# Altium integrated library ON Semi IGBTs.IntLib: 53 symbols (part 1 of 2)
Pins are listed as number, name and electrical type; pins without a type are passive.

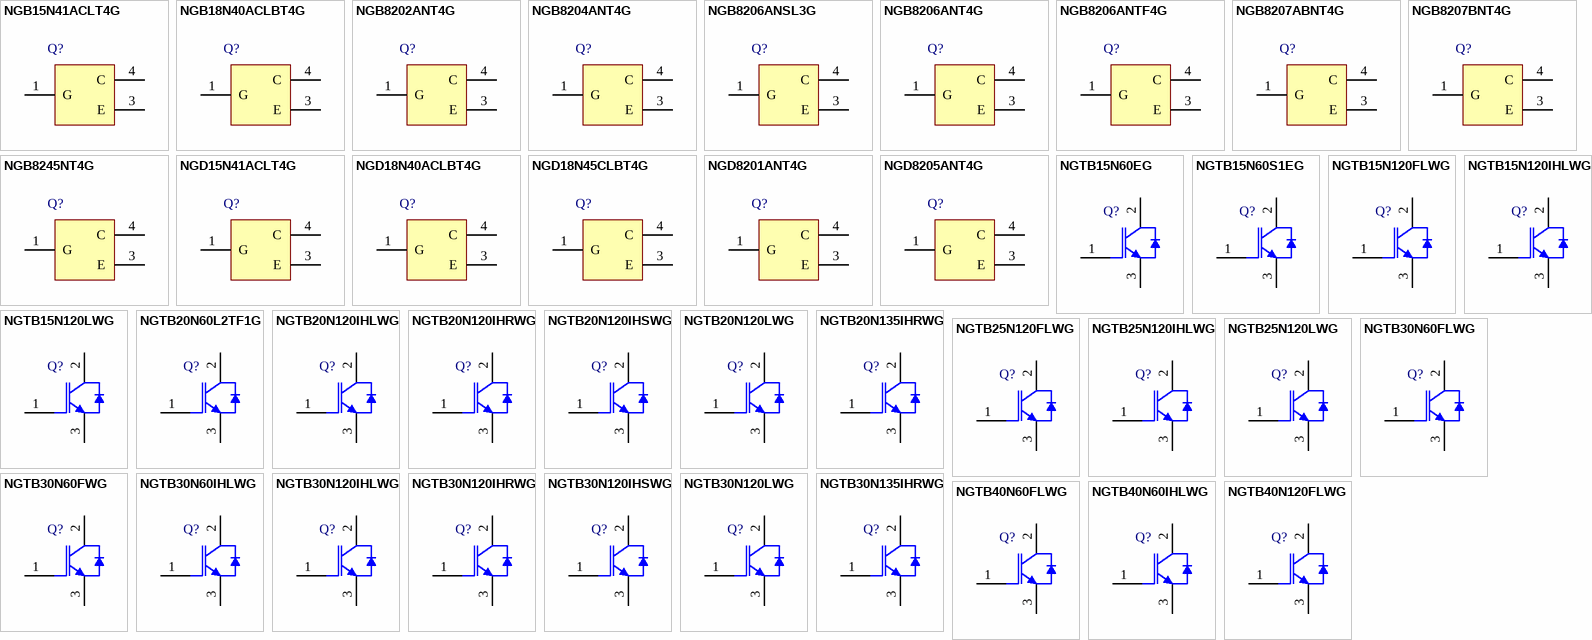
[diagram p0: symbols NGB15N41ACLT4G to NGTB40N120FLWG]

## NGB15N41ACLT4G
designator Q?
Ignition IGBT, 15 A, 410 V, N-Channel, 3-Pin D2PAK, Pb-Free, Tape and Reel; Manufacturer: On Semiconductor; PartNumber: NGB15N41ACLT4G; PD Max (W): 107; V(BR)CES Typ (V): 410; DatasheetVersion: Rev. 8; PackageVersion: Rev. K, 09/2008; PackageReference: D2PAK-3-418B-04; PackageDescription: 3-Pin Flange Mount, Body 9.145 x 9.97 mm, Pitch 2.54 mm; Supplier 1: Digi-Key; Supplier Part Number 1: NGB15N41ACLT4G-ND; Supplier 2: Newark; Supplier Part Number 2: 76T6446; Supplier 3: Mouser; Supplier Part Number 3: 863-NGB15N41ACLT4G; Packing: Tape and Reel; RoHS: Pb-Free; Mounting Technology: Surface Mount; ComponentLink1Description: Manufacturer URL; ComponentLink1URL: http://www.onsemi.com/; ComponentLink2Description: Datasheet; ComponentLink2URL: http://www.onsemi.com/pub_link/Collateral/NGD15N41CL-D.PDF; ComponentLink3Description: Package Specification; ComponentLink3URL: http://www.onsemi.com/pub_link/Collateral/418B-04.PDF
footprint ONSC-D2PAK-3-418B-04_V (DPAK, 3-Leads, Body 9.97x9.145mm, Pitch 2.54mm)
pins: 1 G, 3 E, 4 C

## NGB18N40ACLBT4G
designator Q?
Ignition IGBT, 18 A, 400 V, N-Channel, 3-Pin D2PAK, Pb-Free, Tape and Reel; Manufacturer: On Semiconductor; PartNumber: NGB18N40ACLBT4G; PD Max (W): 115; DatasheetVersion: Rev. 4; PackageVersion: Rev. K, 09/2008; PackageReference: D2PAK-3-418B-04; PackageDescription: 3-Pin Flange Mount, Body 9.145 x 9.97 mm, Pitch 2.54 mm; Supplier 1: Digi-Key; Supplier Part Number 1: NGB18N40ACLBT4G-ND; Supplier 2: Mouser; Supplier Part Number 2: 863-NGB18N40ACLBT4G; Packing: Tape and Reel; RoHS: Pb-Free; Mounting Technology: Surface Mount; ComponentLink1Description: Manufacturer URL; ComponentLink1URL: http://www.onsemi.com/; ComponentLink2Description: Datasheet; ComponentLink2URL: http://www.onsemi.com/pub_link/Collateral/NGB18N40CLBT4-D.PDF; ComponentLink3Description: Package Specification; ComponentLink3URL: http://www.onsemi.com/pub_link/Collateral/418B-04.PDF
footprint ONSC-D2PAK-3-418B-04_V (DPAK, 3-Leads, Body 9.97x9.145mm, Pitch 2.54mm)
pins: 1 G, 3 E, 4 C

## NGB8202ANT4G
designator Q?
Ignition IGBT, 20 A, 400 V, N-Channel, 3-Pin D2PAK, Pb-Free, Tape and Reel; Manufacturer: On Semiconductor; PartNumber: NGB8202ANT4G; PD Max (W): 150; DatasheetVersion: Rev. 7; PackageVersion: Rev. K, 09/2008; PackageReference: D2PAK-3-418B-04; PackageDescription: 3-Pin Flange Mount, Body 9.145 x 9.97 mm, Pitch 2.54 mm; Supplier 1: Digi-Key; Supplier Part Number 1: NGB8202ANT4G-ND; Supplier 2: Newark; Supplier Part Number 2: 07W7299; Supplier 3: Mouser; Supplier Part Number 3: 863-NGB8202ANT4G; Packing: Tape and Reel; RoHS: Pb-Free; Mounting Technology: Surface Mount; ComponentLink1Description: Manufacturer URL; ComponentLink1URL: http://www.onsemi.com/; ComponentLink2Description: Datasheet; ComponentLink2URL: http://www.onsemi.com/pub_link/Collateral/NGB8202N-D.PDF; ComponentLink3Description: Package Specification; ComponentLink3URL: http://www.onsemi.com/pub_link/Collateral/418B-04.PDF
footprint ONSC-D2PAK-3-418B-04_V (DPAK, 3-Leads, Body 9.97x9.145mm, Pitch 2.54mm)
pins: 1 G, 3 E, 4 C

## NGB8204ANT4G
designator Q?
Ignition IGBT, 18 A, 400 V, N-Channel, 3-Pin D2PAK, Pb-Free, Tape and Reel; Manufacturer: On Semiconductor; PartNumber: NGB8204ANT4G; PD Max (W): 115; DatasheetVersion: Rev. 4; PackageVersion: Rev. K, 09/2008; PackageReference: D2PAK-3-418B-04; PackageDescription: 3-Pin Flange Mount, Body 9.145 x 9.97 mm, Pitch 2.54 mm; Supplier 1: Digi-Key; Supplier Part Number 1: NGB8204ANT4GOSTR-ND; Supplier 2: Digi-Key; Supplier Part Number 2: NGB8204ANT4GOSCT-ND; Supplier 3: Digi-Key; Supplier Part Number 3: NGB8204ANT4GOSDKR-ND; Supplier 4: Mouser; Supplier Part Number 4: 863-NGB8204ANT4G; Packing: Tape and Reel; RoHS: Pb-Free; Mounting Technology: Surface Mount; ComponentLink1Description: Manufacturer URL; ComponentLink1URL: http://www.onsemi.com/; ComponentLink2Description: Datasheet; ComponentLink2URL: http://www.onsemi.com/pub_link/Collateral/NGB8204N-D.PDF; ComponentLink3Description: Package Specification; ComponentLink3URL: http://www.onsemi.com/pub_link/Collateral/418B-04.PDF
footprint ONSC-D2PAK-3-418B-04_V (DPAK, 3-Leads, Body 9.97x9.145mm, Pitch 2.54mm)
pins: 1 G, 3 E, 4 C

## NGB8206ANSL3G
designator Q?
Ignition IGBT, 20 A, 350 V, N-Channel, 3-Pin D2PAK, Pb-Free, Tube; Manufacturer: On Semiconductor; PartNumber: NGB8206ANSL3G; PD Max (W): 150; DatasheetVersion: Rev. 9; PackageVersion: Rev. K, 09/2008; PackageReference: D2PAK-3-418B-04; PackageDescription: 3-Pin Flange Mount, Body 9.145 x 9.97 mm, Pitch 2.54 mm; Supplier 1: Digi-Key; Supplier Part Number 1: NGB8206ANSL3G-ND; Supplier 2: Newark; Supplier Part Number 2: 07W7300; Supplier 3: Mouser; Supplier Part Number 3: 863-NGB8206ANSL3G; Packing: Tube; RoHS: Pb-Free; Mounting Technology: Surface Mount; ComponentLink1Description: Manufacturer URL; ComponentLink1URL: http://www.onsemi.com/; ComponentLink2Description: Datasheet; ComponentLink2URL: http://www.onsemi.com/pub_link/Collateral/NGB8206N-D.PDF; ComponentLink3Description: Package Specification; ComponentLink3URL: http://www.onsemi.com/pub_link/Collateral/418B-04.PDF
footprint ONSC-D2PAK-3-418B-04_V (DPAK, 3-Leads, Body 9.97x9.145mm, Pitch 2.54mm)
pins: 1 G, 3 E, 4 C

## NGB8206ANT4G
designator Q?
Ignition IGBT, 20 A, 350 V, N-Channel, 3-Pin D2PAK, Pb-Free, Tape and Reel; Manufacturer: On Semiconductor; PartNumber: NGB8206ANT4G; PD Max (W): 150; DatasheetVersion: Rev. 9; PackageVersion: Rev. K, 09/2008; PackageReference: D2PAK-3-418B-04; PackageDescription: 3-Pin Flange Mount, Body 9.145 x 9.97 mm, Pitch 2.54 mm; Supplier 1: Digi-Key; Supplier Part Number 1: NGB8206ANT4G-ND; Supplier 2: Mouser; Supplier Part Number 2: 863-NGB8206ANT4G; Packing: Tape and Reel; RoHS: Pb-Free; Mounting Technology: Surface Mount; ComponentLink1Description: Manufacturer URL; ComponentLink1URL: http://www.onsemi.com/; ComponentLink2Description: Datasheet; ComponentLink2URL: http://www.onsemi.com/pub_link/Collateral/NGB8206N-D.PDF; ComponentLink3Description: Package Specification; ComponentLink3URL: http://www.onsemi.com/pub_link/Collateral/418B-04.PDF
footprint ONSC-D2PAK-3-418B-04_V (DPAK, 3-Leads, Body 9.97x9.145mm, Pitch 2.54mm)
pins: 1 G, 3 E, 4 C

## NGB8206ANTF4G
designator Q?
Ignition IGBT, 20 A, 350 V, N-Channel, 3-Pin D2PAK, Pb-Free, Tape and Reel; Manufacturer: On Semiconductor; PartNumber: NGB8206ANTF4G; PD Max (W): 150; DatasheetVersion: Rev. 9; PackageVersion: Rev. K, 09/2008; PackageReference: D2PAK-3-418B-04; PackageDescription: 3-Pin Flange Mount, Body 9.145 x 9.97 mm, Pitch 2.54 mm; Supplier 1: Digi-Key; Supplier Part Number 1: NGB8206ANTF4G-ND; Supplier 2: Mouser; Supplier Part Number 2: 863-NGB8206ANTF4G; Packing: Tape and Reel; RoHS: Pb-Free; Mounting Technology: Surface Mount; ComponentLink1Description: Manufacturer URL; ComponentLink1URL: http://www.onsemi.com/; ComponentLink2Description: Datasheet; ComponentLink2URL: http://www.onsemi.com/pub_link/Collateral/NGB8206N-D.PDF; ComponentLink3Description: Package Specification; ComponentLink3URL: http://www.onsemi.com/pub_link/Collateral/418B-04.PDF
footprint ONSC-D2PAK-3-418B-04_V (DPAK, 3-Leads, Body 9.97x9.145mm, Pitch 2.54mm)
pins: 1 G, 3 E, 4 C

## NGB8207ABNT4G
designator Q?
Ignition IGBT, 20 A, 365 V, N-Channel, 3-Pin D2PAK, Pb-Free, Tape and Reel; Manufacturer: On Semiconductor; PartNumber: NGB8207ABNT4G; PD Max (W): 165; DatasheetVersion: Rev. 1; PackageVersion: Rev. K, 09/2008; PackageReference: D2PAK-3-418B-04; PackageDescription: 3-Pin Flange Mount, Body 9.145 x 9.97 mm, Pitch 2.54 mm; Supplier 1: Digi-Key; Supplier Part Number 1: NGB8207ABNT4GOSTR-ND; Supplier 2: Digi-Key; Supplier Part Number 2: NGB8207ABNT4GOSCT-ND; Supplier 3: Digi-Key; Supplier Part Number 3: NGB8207ABNT4GOSDKR-ND; Supplier 4: Mouser; Supplier Part Number 4: 863-NGB8207ABNT4G; Packing: Tape and Reel; RoHS: Pb-Free; Mounting Technology: Surface Mount; ComponentLink1Description: Manufacturer URL; ComponentLink1URL: http://www.onsemi.com/; ComponentLink2Description: Datasheet; ComponentLink2URL: http://www.onsemi.com/pub_link/Collateral/NGB8207AN-D.PDF; ComponentLink3Description: Package Specification; ComponentLink3URL: http://www.onsemi.com/pub_link/Collateral/418B-04.PDF
footprint ONSC-D2PAK-3-418B-04_V (DPAK, 3-Leads, Body 9.97x9.145mm, Pitch 2.54mm)
pins: 1 G, 3 E, 4 C

## NGB8207BNT4G
designator Q?
Ignition IGBT, 20 A, 365 V, N-Channel, 3-Pin D2PAK, Pb-Free, Tape and Reel; Manufacturer: On Semiconductor; PartNumber: NGB8207BNT4G; PD Max (W): 165; DatasheetVersion: Rev. 1; PackageVersion: Rev. K, 09/2008; PackageReference: D2PAK-3-418B-04; PackageDescription: 3-Pin Flange Mount, Body 9.145 x 9.97 mm, Pitch 2.54 mm; Supplier 1: Digi-Key; Supplier Part Number 1: NGB8207BNT4GOSTR-ND; Supplier 2: Digi-Key; Supplier Part Number 2: NGB8207BNT4GOSCT-ND; Supplier 3: Digi-Key; Supplier Part Number 3: NGB8207BNT4GOSDKR-ND; Supplier 4: Farnell; Supplier Part Number 4: 2114668; Supplier 5: Newark; Supplier Part Number 5: 05W5639; Supplier 6: Mouser; Supplier Part Number 6: 863-NGB8207BNT4G; Packing: Tape and Reel; RoHS: Pb-Free; Mounting Technology: Surface Mount; ComponentLink1Description: Manufacturer URL; ComponentLink1URL: http://www.onsemi.com/; ComponentLink2Description: Datasheet; ComponentLink2URL: http://www.onsemi.com/pub_link/Collateral/NGB8207N-D.PDF; ComponentLink3Description: Package Specification; ComponentLink3URL: http://www.onsemi.com/pub_link/Collateral/418B-04.PDF
footprint ONSC-D2PAK-3-418B-04_V (DPAK, 3-Leads, Body 9.97x9.145mm, Pitch 2.54mm)
pins: 1 G, 3 E, 4 C

## NGB8245NT4G
designator Q?
Ignition IGBT, 20 A, 450 V, N-Channel, 3-Pin D2PAK, Pb-Free, Tape and Reel; Manufacturer: On Semiconductor; PartNumber: NGB8245NT4G; EAS Typ (mJ): 158; PD Max (W): 150; DatasheetVersion: Rev. 2; PackageVersion: Rev. K, 09/2008; PackageReference: D2PAK-3-418B-04; PackageDescription: 3-Pin Flange Mount, Body 9.145 x 9.97 mm, Pitch 2.54 mm; Supplier 1: Digi-Key; Supplier Part Number 1: NGB8245NT4GOSTR-ND; Supplier 2: Digi-Key; Supplier Part Number 2: NGB8245NT4GOSCT-ND; Supplier 3: Digi-Key; Supplier Part Number 3: NGB8245NT4GOSDKR-ND; Supplier 4: Newark; Supplier Part Number 4: 76T6448; Supplier 5: Mouser; Supplier Part Number 5: 863-NGB8245NT4G; Packing: Tape and Reel; RoHS: Pb-Free; Mounting Technology: Surface Mount; ComponentLink1Description: Manufacturer URL; ComponentLink1URL: http://www.onsemi.com/; ComponentLink2Description: Datasheet; ComponentLink2URL: http://www.onsemi.com/pub_link/Collateral/NGB8245N-D.PDF; ComponentLink3Description: Package Specification; ComponentLink3URL: http://www.onsemi.com/pub_link/Collateral/418B-04.PDF
footprint ONSC-D2PAK-3-418B-04_V (DPAK, 3-Leads, Body 9.97x9.145mm, Pitch 2.54mm)
pins: 1 G, 3 E, 4 C

## NGD15N41ACLT4G
designator Q?
Ignition IGBT, 15 A, 410 V, N-Channel, 3-Pin DPAK, Pb-Free, Tape and Reel; Manufacturer: On Semiconductor; PartNumber: NGD15N41ACLT4G; PD Max (W): 107; V(BR)CES Typ (V): 410; DatasheetVersion: Rev. 8; PackageVersion: Rev. E, 02/2014; PackageReference: DPAK-3-369C-01; PackageDescription: 3-Pin Flange Mount, Body 6.54 x 6.095 mm, Pitch 2.29 mm; Supplier 1: Digi-Key; Supplier Part Number 1: NGD15N41ACLT4G-ND; Supplier 2: Newark; Supplier Part Number 2: 76T6449; Supplier 3: Mouser; Supplier Part Number 3: 863-NGD15N41ACLT4G; Packing: Tape and Reel; RoHS: Pb-Free; Mounting Technology: Surface Mount; ComponentLink1Description: Manufacturer URL; ComponentLink1URL: http://www.onsemi.com/; ComponentLink2Description: Datasheet; ComponentLink2URL: http://www.onsemi.com/pub_link/Collateral/NGD15N41CL-D.PDF; ComponentLink3Description: Package Specification; ComponentLink3URL: http://www.onsemi.cn/pub_link/Collateral/369C.PDF
footprint ONSC-DPAK-3-369C-01_V (DPAK, 3-Leads, Body 6.54x6.095mm, Pitch 2.29mm)
pins: 1 G, 3 E, 4 C

## NGD18N40ACLBT4G
designator Q?
Ignition IGBT, 18 A, 400 V, N-Channel, 3-Pin DPAK, Pb-Free, Tape and Reel; Manufacturer: On Semiconductor; PartNumber: NGD18N40ACLBT4G; PD Max (W): 115; DatasheetVersion: Rev. 8; PackageVersion: Rev. E, 02/2014; PackageReference: DPAK-3-369C-01; PackageDescription: 3-Pin Flange Mount, Body 6.54 x 6.095 mm, Pitch 2.29 mm; Supplier 1: Digi-Key; Supplier Part Number 1: NGD18N40ACLBT4GOSTR-ND; Supplier 2: Digi-Key; Supplier Part Number 2: NGD18N40ACLBT4GOSCT-ND; Supplier 3: Digi-Key; Supplier Part Number 3: NGD18N40ACLBT4GOSDKR-ND; Supplier 4: Farnell; Supplier Part Number 4: 2114669; Supplier 5: Newark; Supplier Part Number 5: 92T2160; Supplier 6: Mouser; Supplier Part Number 6: 863-NGD18N40ACLBT4G; Packing: Tape and Reel; RoHS: Pb-Free; Mounting Technology: Surface Mount; ComponentLink1Description: Manufacturer URL; ComponentLink1URL: http://www.onsemi.com/; ComponentLink2Description: Datasheet; ComponentLink2URL: http://www.onsemi.com/pub_link/Collateral/NGD18N40CLB-D.PDF; ComponentLink3Description: Package Specification; ComponentLink3URL: http://www.onsemi.cn/pub_link/Collateral/369C.PDF
footprint ONSC-DPAK-3-369C-01_V (DPAK, 3-Leads, Body 6.54x6.095mm, Pitch 2.29mm)
pins: 1 G, 3 E, 4 C

## NGD18N45CLBT4G
designator Q?
Ignition IGBT, 18 A, 450 V, N-Channel, 3-Pin DPAK, Pb-Free, Tape and Reel; Manufacturer: On Semiconductor; PartNumber: NGD18N45CLBT4G; PD Max (W): 115; DatasheetVersion: Rev. 0; PackageVersion: Rev. E, 02/2014; PackageReference: DPAK-3-369C-01; PackageDescription: 3-Pin Flange Mount, Body 6.54 x 6.095 mm, Pitch 2.29 mm; Supplier 1: Newark; Supplier Part Number 1: 60W1751; Supplier 2: Mouser; Supplier Part Number 2: 863-NGD18N45CLBT4G; Packing: Tape and Reel; RoHS: Pb-Free; Mounting Technology: Surface Mount; ComponentLink1Description: Manufacturer URL; ComponentLink1URL: http://www.onsemi.com/; ComponentLink2Description: Datasheet; ComponentLink2URL: http://www.onsemi.com/pub_link/Collateral/NGD18N45CLB-D.PDF; ComponentLink3Description: Package Specification; ComponentLink3URL: http://www.onsemi.cn/pub_link/Collateral/369C.PDF
footprint ONSC-DPAK-3-369C-01_V (DPAK, 3-Leads, Body 6.54x6.095mm, Pitch 2.29mm)
pins: 1 G, 3 E, 4 C

## NGD8201ANT4G
designator Q?
Ignition IGBT, 20 A, 400 V, N-Channel, 3-Pin DPAK, Pb-Free, Tape and Reel; Manufacturer: On Semiconductor; PartNumber: NGD8201ANT4G; PD Max (W): 125; DatasheetVersion: Rev. 11; PackageVersion: Rev. E, 02/2014; PackageReference: DPAK-3-369C-01; PackageDescription: 3-Pin Flange Mount, Body 6.54 x 6.095 mm, Pitch 2.29 mm; Supplier 1: Digi-Key; Supplier Part Number 1: NGD8201ANT4GOSTR-ND; Supplier 2: Digi-Key; Supplier Part Number 2: NGD8201ANT4GOSCT-ND; Supplier 3: Digi-Key; Supplier Part Number 3: NGD8201ANT4GOSDKR-ND; Supplier 4: Mouser; Supplier Part Number 4: 863-NGD8201ANT4G; Packing: Tape and Reel; RoHS: Pb-Free; Mounting Technology: Surface Mount; ComponentLink1Description: Manufacturer URL; ComponentLink1URL: http://www.onsemi.com/; ComponentLink2Description: Datasheet; ComponentLink2URL: http://www.onsemi.com/pub_link/Collateral/NGD8201N-D.PDF; ComponentLink3Description: Package Specification; ComponentLink3URL: http://www.onsemi.cn/pub_link/Collateral/369C.PDF
footprint ONSC-DPAK-3-369C-01_V (DPAK, 3-Leads, Body 6.54x6.095mm, Pitch 2.29mm)
pins: 1 G, 3 E, 4 C

## NGD8205ANT4G
designator Q?
Ignition IGBT, 20 A, 350 V, N-Channel, 3-Pin DPAK, Pb-Free, Tape and Reel; Manufacturer: On Semiconductor; PartNumber: NGD8205ANT4G; PD Max (W): 125; DatasheetVersion: Rev. 9; PackageVersion: Rev. E, 02/2014; PackageReference: DPAK-3-369C-01; PackageDescription: 3-Pin Flange Mount, Body 6.54 x 6.095 mm, Pitch 2.29 mm; Supplier 1: Digi-Key; Supplier Part Number 1: NGD8205ANT4GOSTR-ND; Supplier 2: Digi-Key; Supplier Part Number 2: NGD8205ANT4GOSCT-ND; Supplier 3: Digi-Key; Supplier Part Number 3: NGD8205ANT4GOSDKR-ND; Supplier 4: Farnell; Supplier Part Number 4: 2114670; Supplier 5: Mouser; Supplier Part Number 5: 863-NGD8205ANT4G; Packing: Tape and Reel; RoHS: Pb-Free; Mounting Technology: Surface Mount; ComponentLink1Description: Manufacturer URL; ComponentLink1URL: http://www.onsemi.com/; ComponentLink2Description: Datasheet; ComponentLink2URL: http://www.onsemi.com/pub_link/Collateral/NGD8205N-D.PDF; ComponentLink3Description: Package Specification; ComponentLink3URL: http://www.onsemi.cn/pub_link/Collateral/369C.PDF
footprint ONSC-DPAK-3-369C-01_V (DPAK, 3-Leads, Body 6.54x6.095mm, Pitch 2.29mm)
pins: 1 G, 3 E, 4 C

## NGTB15N60EG
designator Q?
IGBT - Short-Circuit Rated, 3-Pin TO-220, Pb-Free, Tube; Manufacturer: On Semiconductor; PartNumber: NGTB15N60EG; DatasheetVersion: Rev. 7; PackageVersion: Rev. AG, 09/2011; PackageReference: TO-220-3-221A-09; PackageDescription: 3-Pin Flange Mount, Vertical Straight Lead, Body 9.97 x 4.445 mm, Pitch 2.54 mm; Supplier 1: Digi-Key; Supplier Part Number 1: NGTB15N60EGOS-ND; Supplier 2: Farnell; Supplier Part Number 2: 2216666; Supplier 3: Newark; Supplier Part Number 3: 07W7304; Supplier 4: Newark; Supplier Part Number 4: 46W5231; Supplier 5: Mouser; Supplier Part Number 5: 863-NGTB15N60EG; Packing: Tube; RoHS: Pb-Free; Mounting Technology: Through Hole; ComponentLink1Description: Manufacturer URL; ComponentLink1URL: http://www.onsemi.com/; ComponentLink2Description: Datasheet; ComponentLink2URL: http://www.onsemi.com/pub_link/Collateral/NGTB15N60E-D.PDF; ComponentLink3Description: Package Specification; ComponentLink3URL: http://www.onsemi.com/pub_link/Collateral/221A-09.PDF
footprint ONSC-TO-220-3-221A-09 (FM, 3-Leads, Body 10.3x4.85mm, Pitch 2.54mm)
pins: 1 G, 2 C, 3 E

## NGTB15N60S1EG
designator Q?
IGBT - Short-Circuit Rated, 3-Pin TO-220, Pb-Free, Tube; Manufacturer: On Semiconductor; PartNumber: NGTB15N60S1EG; DatasheetVersion: Rev. 3; PackageVersion: Rev. AG, 09/2011; PackageReference: TO-220-3-221A-09; PackageDescription: 3-Pin Flange Mount, Vertical Straight Lead, Body 9.97 x 4.445 mm, Pitch 2.54 mm; Supplier 1: Digi-Key; Supplier Part Number 1: NGTB15N60S1EGOS-ND; Supplier 2: Farnell; Supplier Part Number 2: 2216667; Supplier 3: Newark; Supplier Part Number 3: 07W7305; Supplier 4: Newark; Supplier Part Number 4: 46W5232; Supplier 5: Mouser; Supplier Part Number 5: 863-NGTB15N60S1EG; Packing: Tube; RoHS: Pb-Free; Mounting Technology: Through Hole; ComponentLink1Description: Manufacturer URL; ComponentLink1URL: http://www.onsemi.com/; ComponentLink2Description: Datasheet; ComponentLink2URL: http://www.onsemi.com/pub_link/Collateral/NGTB15N60S1E-D.PDF; ComponentLink3Description: Package Specification; ComponentLink3URL: http://www.onsemi.com/pub_link/Collateral/221A-09.PDF
footprint ONSC-TO-220-3-221A-09 (FM, 3-Leads, Body 10.3x4.85mm, Pitch 2.54mm)
pins: 1 G, 2 C, 3 E

## NGTB15N120FLWG
designator Q?
IGBT, 15 A, 1200 V, 3-Pin TO-247, Pb-Free, Tube; Manufacturer: On Semiconductor; PartNumber: NGTB15N120FLWG; DatasheetVersion: Rev. 1; PackageVersion: Rev. F, 10/2011; PackageReference: TO-247-3-340L-02; PackageDescription: 3-Pin Flange Mount, Vertical Straight Lead, Body 16.005 x 5 mm, Pitch 5.45 mm; Supplier 1: Farnell; Supplier Part Number 1: 2321672; Supplier 2: Newark; Supplier Part Number 2: 90W9264; Supplier 3: Newark; Supplier Part Number 3: 60W1752; Supplier 4: Mouser; Supplier Part Number 4: 863-NGTB15N120FLWG; Packing: Tube; RoHS: Pb-Free; Mounting Technology: Through Hole; ComponentLink1Description: Manufacturer URL; ComponentLink1URL: http://www.onsemi.com/; ComponentLink2Description: Datasheet; ComponentLink2URL: http://www.onsemi.com/pub_link/Collateral/NGTB15N120FLW-D.PDF; ComponentLink3Description: Package Specification; ComponentLink3URL: http://www.onsemi.cn/pub_link/Collateral/340L-02.PDF
footprint ONSC-TO-247-3-340L-02 (FM, 3-Leads, Body 16.3x5.3mm, Pitch 5.45mm)
pins: 1 G, 2 C, 3 E

## NGTB15N120IHLWG
designator Q?
IGBT, 15 A, 1200 V, 3-Pin TO-247, Pb-Free, Tube; Manufacturer: On Semiconductor; PartNumber: NGTB15N120IHLWG; DatasheetVersion: Rev. 1; PackageVersion: Rev. F, 10/2011; PackageReference: TO-247-3-340L-02; PackageDescription: 3-Pin Flange Mount, Vertical Straight Lead, Body 16.005 x 5 mm, Pitch 5.45 mm; Supplier 1: Digi-Key; Supplier Part Number 1: NGTB15N120IHLWGOS-ND; Supplier 2: Farnell; Supplier Part Number 2: 2114671; Supplier 3: Newark; Supplier Part Number 3: 05W5642; Supplier 4: Newark; Supplier Part Number 4: 92T2162; Supplier 5: Mouser; Supplier Part Number 5: 863-NGTB15N120IHLWG; Packing: Tube; RoHS: Pb-Free; Mounting Technology: Through Hole; ComponentLink1Description: Manufacturer URL; ComponentLink1URL: http://www.onsemi.com/; ComponentLink2Description: Datasheet; ComponentLink2URL: http://www.onsemi.com/pub_link/Collateral/NGTB15N120IHL-D.PDF; ComponentLink3Description: Package Specification; ComponentLink3URL: http://www.onsemi.cn/pub_link/Collateral/340L-02.PDF
footprint ONSC-TO-247-3-340L-02 (FM, 3-Leads, Body 16.3x5.3mm, Pitch 5.45mm)
pins: 1 G, 2 C, 3 E

## NGTB15N120LWG
designator Q?
IGBT, 15 A, 1200 V, 3-Pin TO-247, Pb-Free, Tube; Manufacturer: On Semiconductor; PartNumber: NGTB15N120LWG; DatasheetVersion: Rev. 3; PackageVersion: Rev. F, 10/2011; PackageReference: TO-247-3-340L-02; PackageDescription: 3-Pin Flange Mount, Vertical Straight Lead, Body 16.005 x 5 mm, Pitch 5.45 mm; Supplier 1: Digi-Key; Supplier Part Number 1: NGTB15N120LWGOS-ND; Supplier 2: Farnell; Supplier Part Number 2: 2216665; Supplier 3: Newark; Supplier Part Number 3: 07W7303; Supplier 4: Mouser; Supplier Part Number 4: 863-NGTB15N120LWG; Packing: Tube; RoHS: Pb-Free; Mounting Technology: Through Hole; ComponentLink1Description: Manufacturer URL; ComponentLink1URL: http://www.onsemi.com/; ComponentLink2Description: Datasheet; ComponentLink2URL: http://www.onsemi.com/pub_link/Collateral/NGTB15N120L-D.PDF; ComponentLink3Description: Package Specification; ComponentLink3URL: http://www.onsemi.cn/pub_link/Collateral/340L-02.PDF
footprint ONSC-TO-247-3-340L-02 (FM, 3-Leads, Body 16.3x5.3mm, Pitch 5.45mm)
pins: 1 G, 2 C, 3 E

## NGTB20N60L2TF1G
designator Q?
N-Channel IGBT, 600 V, 20 A, VCE(sat), 1.45 V with Low VF Switching Diode, 3-Pin TO-3PF, Pb-Free, Tube; Manufacturer: On Semiconductor; PartNumber: NGTB20N60L2TF1G; PD Max (W): 64; PackageVersion: Rev. O, 04/2012; PackageReference: TO-3PF-3L-3-340AH; PackageDescription: 3-Pin Flange Mount, Body 15.5 x 5.5 mm, Pitch 5.45 mm; Supplier 1: Newark; Supplier Part Number 1: 97W6295; Supplier 2: Mouser; Supplier Part Number 2: 863-NGTB20N60L2TF1G; Packing: Tube; RoHS: Pb-Free; Mounting Technology: Through Hole; ComponentLink1Description: Manufacturer URL; ComponentLink1URL: http://www.onsemi.com/; ComponentLink2Description: Datasheet; ComponentLink2URL: http://www.onsemi.com/pub_link/Collateral/ENA2196-D.PDF; ComponentLink3Description: Package Specification; ComponentLink3URL: http://www.onsemi.com/pub_link/Collateral/340AH.PDF
footprint ONSC-TO-3PF-3L-3-340AH (FM, 3-Leads, Body 15.7x5.7mm, Pitch 5.45mm)
pins: 1 G, 2 C, 3 E

## NGTB20N120IHLWG
designator Q?
IGBT, 20 A, 1200 V, 3-Pin TO-247, Pb-Free, Tube; Manufacturer: On Semiconductor; PartNumber: NGTB20N120IHLWG; DatasheetVersion: Rev. 1; PackageVersion: Rev. F, 10/2011; PackageReference: TO-247-3-340L-02; PackageDescription: 3-Pin Flange Mount, Vertical Straight Lead, Body 16.005 x 5 mm, Pitch 5.45 mm; Supplier 1: Digi-Key; Supplier Part Number 1: NGTB20N120IHLWGOS-ND; Supplier 2: Farnell; Supplier Part Number 2: 2114672; Supplier 3: Newark; Supplier Part Number 3: 92T2163; Supplier 4: Mouser; Supplier Part Number 4: 863-NGTB20N120IHLWG; Packing: Tube; RoHS: Pb-Free; Mounting Technology: Through Hole; ComponentLink1Description: Manufacturer URL; ComponentLink1URL: http://www.onsemi.com/; ComponentLink2Description: Datasheet; ComponentLink2URL: http://www.onsemi.com/pub_link/Collateral/NGTB20N120IHL-D.PDF; ComponentLink3Description: Package Specification; ComponentLink3URL: http://www.onsemi.cn/pub_link/Collateral/340L-02.PDF
footprint ONSC-TO-247-3-340L-02 (FM, 3-Leads, Body 16.3x5.3mm, Pitch 5.45mm)
pins: 1 G, 2 C, 3 E

## NGTB20N120IHRWG
designator Q?
IGBT with Monolithic Free Wheeling Diode, 3-Pin TO-247, Pb-Free, Tube; Manufacturer: On Semiconductor; PartNumber: NGTB20N120IHRWG; DatasheetVersion: Rev. 1; PackageVersion: Rev. A, 08/2013; PackageReference: TO-247-3-340AL; PackageDescription: 3-Pin Flange Mount, Vertical Straight Lead, Body 15.875 x 5 mm, Pitch 5.45 mm; Supplier 1: Digi-Key; Supplier Part Number 1: NGTB20N120IHRWGOS-ND; Supplier 2: Newark; Supplier Part Number 2: 97W6293; Supplier 3: Mouser; Supplier Part Number 3: 863-NGTB20N120IHRWG; Packing: Tube; RoHS: Pb-Free; Mounting Technology: Through Hole; ComponentLink1Description: Manufacturer URL; ComponentLink1URL: http://www.onsemi.com/; ComponentLink2Description: Datasheet; ComponentLink2URL: http://www.onsemi.com/pub_link/Collateral/NGTB20N120IHR-D.PDF; ComponentLink3Description: Package Specification; ComponentLink3URL: http://www.onsemi.com/pub_link/Collateral/340AL.PDF
footprint ONSC-TO-247-3-340AL (FM, 3-Leads, Body 16.25x5.3mm, Pitch 5.45mm)
pins: 1 G, 2 C, 3 E

## NGTB20N120IHSWG
designator Q?
IGBT, 20 A, 1200 V, 3-Pin TO-247, Pb-Free, Tube; Manufacturer: On Semiconductor; PartNumber: NGTB20N120IHSWG; DatasheetVersion: Rev. 0; PackageVersion: Rev. F, 10/2011; PackageReference: TO-247-3-340L-02; PackageDescription: 3-Pin Flange Mount, Vertical Straight Lead, Body 16.005 x 5 mm, Pitch 5.45 mm; Supplier 1: Farnell; Supplier Part Number 1: 2321670; Supplier 2: Newark; Supplier Part Number 2: 60W1753; Supplier 3: Mouser; Supplier Part Number 3: 863-NGTB20N120IHSWG; Packing: Tube; RoHS: Pb-Free; Mounting Technology: Through Hole; ComponentLink1Description: Manufacturer URL; ComponentLink1URL: http://www.onsemi.com/; ComponentLink2Description: Datasheet; ComponentLink2URL: http://www.onsemi.com/pub_link/Collateral/NGTB20N120IHS-D.PDF; ComponentLink3Description: Package Specification; ComponentLink3URL: http://www.onsemi.cn/pub_link/Collateral/340L-02.PDF
footprint ONSC-TO-247-3-340L-02 (FM, 3-Leads, Body 16.3x5.3mm, Pitch 5.45mm)
pins: 1 G, 2 C, 3 E

## NGTB20N120LWG
designator Q?
IGBT, 20 A, 1200 V, 3-Pin TO-247, Pb-Free, Tube; Manufacturer: On Semiconductor; PartNumber: NGTB20N120LWG; DatasheetVersion: Rev. 2; PackageVersion: Rev. F, 10/2011; PackageReference: TO-247-3-340L-02; PackageDescription: 3-Pin Flange Mount, Vertical Straight Lead, Body 16.005 x 5 mm, Pitch 5.45 mm; Supplier 1: Digi-Key; Supplier Part Number 1: NGTB20N120LWGOS-ND; Supplier 2: Farnell; Supplier Part Number 2: 2216669; Supplier 3: Newark; Supplier Part Number 3: 07W7306; Supplier 4: Mouser; Supplier Part Number 4: 863-NGTB20N120LWG; Packing: Tube; RoHS: Pb-Free; Mounting Technology: Through Hole; ComponentLink1Description: Manufacturer URL; ComponentLink1URL: http://www.onsemi.com/; ComponentLink2Description: Datasheet; ComponentLink2URL: http://www.onsemi.com/pub_link/Collateral/NGTB20N120L-D.PDF; ComponentLink3Description: Package Specification; ComponentLink3URL: http://www.onsemi.cn/pub_link/Collateral/340L-02.PDF
footprint ONSC-TO-247-3-340L-02 (FM, 3-Leads, Body 16.3x5.3mm, Pitch 5.45mm)
pins: 1 G, 2 C, 3 E

## NGTB20N135IHRWG
designator Q?
IGBT with Monolithic Free Wheeling Diode, 3-Pin TO-247, Pb-Free, Tube; Manufacturer: On Semiconductor; PartNumber: NGTB20N135IHRWG; DatasheetVersion: Rev. 0; PackageVersion: Rev. A, 08/2013; PackageReference: TO-247-3-340AL; PackageDescription: 3-Pin Flange Mount, Vertical Straight Lead, Body 15.875 x 5 mm, Pitch 5.45 mm; Supplier 1: Digi-Key; Supplier Part Number 1: NGTB20N135IHRWGOS-ND; Supplier 2: Newark; Supplier Part Number 2: 97W6294; Supplier 3: Mouser; Supplier Part Number 3: 863-NGTB20N135IHRWG; Packing: Tube; RoHS: Pb-Free; Mounting Technology: Through Hole; ComponentLink1Description: Manufacturer URL; ComponentLink1URL: http://www.onsemi.com/; ComponentLink2Description: Datasheet; ComponentLink2URL: http://www.onsemi.com/pub_link/Collateral/NGTB20N135IHR-D.PDF; ComponentLink3Description: Package Specification; ComponentLink3URL: http://www.onsemi.com/pub_link/Collateral/340AL.PDF
footprint ONSC-TO-247-3-340AL (FM, 3-Leads, Body 16.25x5.3mm, Pitch 5.45mm)
pins: 1 G, 2 C, 3 E

## NGTB25N120FLWG
designator Q?
IGBT, 25 A, 1200 V, 3-Pin TO-247, Pb-Free, Tube; Manufacturer: On Semiconductor; PartNumber: NGTB25N120FLWG; DatasheetVersion: Rev. 0; PackageVersion: Rev. F, 10/2011; PackageReference: TO-247-3-340L-02; PackageDescription: 3-Pin Flange Mount, Vertical Straight Lead, Body 16.005 x 5 mm, Pitch 5.45 mm; Supplier 1: Farnell; Supplier Part Number 1: 2321669; Supplier 2: Newark; Supplier Part Number 2: 90W9266; Supplier 3: Newark; Supplier Part Number 3: 60W1754; Supplier 4: Mouser; Supplier Part Number 4: 863-NGTB25N120FLWG; Packing: Tube; RoHS: Pb-Free; Mounting Technology: Through Hole; ComponentLink1Description: Manufacturer URL; ComponentLink1URL: http://www.onsemi.com/; ComponentLink2Description: Datasheet; ComponentLink2URL: http://www.onsemi.com/pub_link/Collateral/NGTB25N120FLW-D.PDF; ComponentLink3Description: Package Specification; ComponentLink3URL: http://www.onsemi.cn/pub_link/Collateral/340L-02.PDF
footprint ONSC-TO-247-3-340L-02 (FM, 3-Leads, Body 16.3x5.3mm, Pitch 5.45mm)
pins: 1 G, 2 C, 3 E

## NGTB25N120IHLWG
designator Q?
IGBT, 25 A, 1200 V, 3-Pin TO-247, Pb-Free, Tube; Manufacturer: On Semiconductor; PartNumber: NGTB25N120IHLWG; DatasheetVersion: Rev. 2; PackageVersion: Rev. F, 10/2011; PackageReference: TO-247-3-340L-02; PackageDescription: 3-Pin Flange Mount, Vertical Straight Lead, Body 16.005 x 5 mm, Pitch 5.45 mm; Supplier 1: Digi-Key; Supplier Part Number 1: NGTB25N120IHLWGOS-ND; Supplier 2: Farnell; Supplier Part Number 2: 2114673; Supplier 3: Newark; Supplier Part Number 3: 92T2164; Supplier 4: Mouser; Supplier Part Number 4: 863-NGTB25N120IHLWG; Packing: Tube; RoHS: Pb-Free; Mounting Technology: Through Hole; ComponentLink1Description: Manufacturer URL; ComponentLink1URL: http://www.onsemi.com/; ComponentLink2Description: Datasheet; ComponentLink2URL: http://www.onsemi.com/pub_link/Collateral/NGTB25N120IHLW-D.PDF; ComponentLink3Description: Package Specification; ComponentLink3URL: http://www.onsemi.cn/pub_link/Collateral/340L-02.PDF
footprint ONSC-TO-247-3-340L-02 (FM, 3-Leads, Body 16.3x5.3mm, Pitch 5.45mm)
pins: 1 G, 2 C, 3 E

## NGTB25N120LWG
designator Q?
IGBT, 25 A, 1200 V, 3-Pin TO-247, Pb-Free, Tube; Manufacturer: On Semiconductor; PartNumber: NGTB25N120LWG; DatasheetVersion: Rev. 4; PackageVersion: Rev. F, 10/2011; PackageReference: TO-247-3-340L-02; PackageDescription: 3-Pin Flange Mount, Vertical Straight Lead, Body 16.005 x 5 mm, Pitch 5.45 mm; Supplier 1: Digi-Key; Supplier Part Number 1: NGTB25N120LWGOS-ND; Supplier 2: Farnell; Supplier Part Number 2: 2216671; Supplier 3: Newark; Supplier Part Number 3: 07W7307; Supplier 4: Mouser; Supplier Part Number 4: 863-NGTB25N120LWG; Packing: Tube; RoHS: Pb-Free; Mounting Technology: Through Hole; ComponentLink1Description: Manufacturer URL; ComponentLink1URL: http://www.onsemi.com/; ComponentLink2Description: Datasheet; ComponentLink2URL: http://www.onsemi.com/pub_link/Collateral/NGTB25N120L-D.PDF; ComponentLink3Description: Package Specification; ComponentLink3URL: http://www.onsemi.cn/pub_link/Collateral/340L-02.PDF
footprint ONSC-TO-247-3-340L-02 (FM, 3-Leads, Body 16.3x5.3mm, Pitch 5.45mm)
pins: 1 G, 2 C, 3 E

## NGTB30N60FLWG
designator Q?
IGBT, 30 A, 600 V, 3-Pin TO-247, Pb-Free, Tube; Manufacturer: On Semiconductor; PartNumber: NGTB30N60FLWG; DatasheetVersion: Rev. 1; PackageVersion: Rev. F, 10/2011; PackageReference: TO-247-3-340L-02; PackageDescription: 3-Pin Flange Mount, Vertical Straight Lead, Body 16.005 x 5 mm, Pitch 5.45 mm; Supplier 1: Digi-Key; Supplier Part Number 1: NGTB30N60FLWGOS-ND; Supplier 2: Farnell; Supplier Part Number 2: 2321656; Supplier 3: Newark; Supplier Part Number 3: 90W9270; Supplier 4: Newark; Supplier Part Number 4: 72W2258; Supplier 5: Mouser; Supplier Part Number 5: 863-NGTB30N60FLWG; Packing: Tube; RoHS: Pb-Free; Mounting Technology: Through Hole; ComponentLink1Description: Manufacturer URL; ComponentLink1URL: http://www.onsemi.com/; ComponentLink2Description: Datasheet; ComponentLink2URL: http://www.onsemi.com/pub_link/Collateral/NGTB30N60FLW-D.PDF; ComponentLink3Description: Package Specification; ComponentLink3URL: http://www.onsemi.cn/pub_link/Collateral/340L-02.PDF
footprint ONSC-TO-247-3-340L-02 (FM, 3-Leads, Body 16.3x5.3mm, Pitch 5.45mm)
pins: 1 G, 2 C, 3 E

## NGTB30N60FWG
designator Q?
IGBT, 30 A, 600 V, 3-Pin TO-247, Pb-Free, Tube; Manufacturer: On Semiconductor; PartNumber: NGTB30N60FWG; DatasheetVersion: Rev. 1; PackageVersion: Rev. F, 10/2011; PackageReference: TO-247-3-340L-02; PackageDescription: 3-Pin Flange Mount, Vertical Straight Lead, Body 16.005 x 5 mm, Pitch 5.45 mm; Supplier 1: Digi-Key; Supplier Part Number 1: NGTB30N60FWGOS-ND; Supplier 2: Farnell; Supplier Part Number 2: 2321657; Supplier 3: Newark; Supplier Part Number 3: 90W9271; Supplier 4: Newark; Supplier Part Number 4: 72W2259; Supplier 5: Mouser; Supplier Part Number 5: 863-NGTB30N60FWG; Packing: Tube; RoHS: Pb-Free; Mounting Technology: Through Hole; ComponentLink1Description: Manufacturer URL; ComponentLink1URL: http://www.onsemi.com/; ComponentLink2Description: Datasheet; ComponentLink2URL: http://www.onsemi.com/pub_link/Collateral/NGTB30N60FW-D.PDF; ComponentLink3Description: Package Specification; ComponentLink3URL: http://www.onsemi.cn/pub_link/Collateral/340L-02.PDF
footprint ONSC-TO-247-3-340L-02 (FM, 3-Leads, Body 16.3x5.3mm, Pitch 5.45mm)
pins: 1 G, 2 C, 3 E

## NGTB30N60IHLWG
designator Q?
IGBT, 30 A, 600 V, 3-Pin TO-247, Pb-Free, Tube; Manufacturer: On Semiconductor; PartNumber: NGTB30N60IHLWG; DatasheetVersion: Rev. 0; PackageVersion: Rev. F, 10/2011; PackageReference: TO-247-3-340L-02; PackageDescription: 3-Pin Flange Mount, Vertical Straight Lead, Body 16.005 x 5 mm, Pitch 5.45 mm; Supplier 1: Farnell; Supplier Part Number 1: 2321659; Supplier 2: Newark; Supplier Part Number 2: 90W9272; Supplier 3: Newark; Supplier Part Number 3: 60W1758; Supplier 4: Mouser; Supplier Part Number 4: 863-NGTB30N60IHLWG; Packing: Tube; RoHS: Pb-Free; Mounting Technology: Through Hole; ComponentLink1Description: Manufacturer URL; ComponentLink1URL: http://www.onsemi.com/; ComponentLink2Description: Datasheet; ComponentLink2URL: http://www.onsemi.com/pub_link/Collateral/NGTB30N60IHLW-D.PDF; ComponentLink3Description: Package Specification; ComponentLink3URL: http://www.onsemi.cn/pub_link/Collateral/340L-02.PDF
footprint ONSC-TO-247-3-340L-02 (FM, 3-Leads, Body 16.3x5.3mm, Pitch 5.45mm)
pins: 1 G, 2 C, 3 E

## NGTB30N120IHLWG
designator Q?
IGBT, 30 A, 1200 V, 3-Pin TO-247, Pb-Free, Tube; Manufacturer: On Semiconductor; PartNumber: NGTB30N120IHLWG; DatasheetVersion: Rev. 0; PackageVersion: Rev. F, 10/2011; PackageReference: TO-247-3-340L-02; PackageDescription: 3-Pin Flange Mount, Vertical Straight Lead, Body 16.005 x 5 mm, Pitch 5.45 mm; Supplier 1: Farnell; Supplier Part Number 1: 2321666; Supplier 2: Newark; Supplier Part Number 2: 90W9267; Supplier 3: Newark; Supplier Part Number 3: 60W1755; Supplier 4: Mouser; Supplier Part Number 4: 863-NGTB30N120IHLWG; Packing: Tube; RoHS: Pb-Free; Mounting Technology: Through Hole; ComponentLink1Description: Manufacturer URL; ComponentLink1URL: http://www.onsemi.com/; ComponentLink2Description: Datasheet; ComponentLink2URL: http://www.onsemi.com/pub_link/Collateral/NGTB30N120IHL-D.PDF; ComponentLink3Description: Package Specification; ComponentLink3URL: http://www.onsemi.cn/pub_link/Collateral/340L-02.PDF
footprint ONSC-TO-247-3-340L-02 (FM, 3-Leads, Body 16.3x5.3mm, Pitch 5.45mm)
pins: 1 G, 2 C, 3 E

## NGTB30N120IHRWG
designator Q?
IGBT with Monolithic Free Wheeling Diode, 3-Pin TO-247, Pb-Free, Tube; Manufacturer: On Semiconductor; PartNumber: NGTB30N120IHRWG; DatasheetVersion: Rev. 1; PackageVersion: Rev. A, 08/2013; PackageReference: TO-247-3-340AL; PackageDescription: 3-Pin Flange Mount, Vertical Straight Lead, Body 15.875 x 5 mm, Pitch 5.45 mm; Supplier 1: Digi-Key; Supplier Part Number 1: NGTB30N120IHRWGOS-ND; Supplier 2: Newark; Supplier Part Number 2: 97W6296; Supplier 3: Mouser; Supplier Part Number 3: 863-NGTB30N120IHRWG; Packing: Tube; RoHS: Pb-Free; Mounting Technology: Through Hole; ComponentLink1Description: Manufacturer URL; ComponentLink1URL: http://www.onsemi.com/; ComponentLink2Description: Datasheet; ComponentLink2URL: http://www.onsemi.com/pub_link/Collateral/NGTB30N120IHR-D.PDF; ComponentLink3Description: Package Specification; ComponentLink3URL: http://www.onsemi.com/pub_link/Collateral/340AL.PDF
footprint ONSC-TO-247-3-340AL (FM, 3-Leads, Body 16.25x5.3mm, Pitch 5.45mm)
pins: 1 G, 2 C, 3 E

## NGTB30N120IHSWG
designator Q?
IGBT, 30 A, 1200 V, 3-Pin TO-247, Pb-Free, Tube; Manufacturer: On Semiconductor; PartNumber: NGTB30N120IHSWG; DatasheetVersion: Rev. 0; PackageVersion: Rev. F, 10/2011; PackageReference: TO-247-3-340L-02; PackageDescription: 3-Pin Flange Mount, Vertical Straight Lead, Body 16.005 x 5 mm, Pitch 5.45 mm; Supplier 1: Farnell; Supplier Part Number 1: 2321667; Supplier 2: Newark; Supplier Part Number 2: 90W9268; Supplier 3: Newark; Supplier Part Number 3: 60W1756; Supplier 4: Mouser; Supplier Part Number 4: 863-NGTB30N120IHSWG; Packing: Tube; RoHS: Pb-Free; Mounting Technology: Through Hole; ComponentLink1Description: Manufacturer URL; ComponentLink1URL: http://www.onsemi.com/; ComponentLink2Description: Datasheet; ComponentLink2URL: http://www.onsemi.com/pub_link/Collateral/NGTB30N120IHSW-D.PDF; ComponentLink3Description: Package Specification; ComponentLink3URL: http://www.onsemi.cn/pub_link/Collateral/340L-02.PDF
footprint ONSC-TO-247-3-340L-02 (FM, 3-Leads, Body 16.3x5.3mm, Pitch 5.45mm)
pins: 1 G, 2 C, 3 E

## NGTB30N120LWG
designator Q?
IGBT, 30 A, 1200 V, 3-Pin TO-247, Pb-Free, Tube; Manufacturer: On Semiconductor; PartNumber: NGTB30N120LWG; DatasheetVersion: Rev. 1; PackageVersion: Rev. F, 10/2011; PackageReference: TO-247-3-340L-02; PackageDescription: 3-Pin Flange Mount, Vertical Straight Lead, Body 16.005 x 5 mm, Pitch 5.45 mm; Supplier 1: Farnell; Supplier Part Number 1: 2321668; Supplier 2: Mouser; Supplier Part Number 2: 863-NGTB30N120LWG; Packing: Tube; RoHS: Pb-Free; Mounting Technology: Through Hole; ComponentLink1Description: Manufacturer URL; ComponentLink1URL: http://www.onsemi.com/; ComponentLink2Description: Datasheet; ComponentLink2URL: http://www.onsemi.com/pub_link/Collateral/NGTB30N120L-D.PDF; ComponentLink3Description: Package Specification; ComponentLink3URL: http://www.onsemi.cn/pub_link/Collateral/340L-02.PDF
footprint ONSC-TO-247-3-340L-02 (FM, 3-Leads, Body 16.3x5.3mm, Pitch 5.45mm)
pins: 1 G, 2 C, 3 E

## NGTB30N135IHRWG
designator Q?
IGBT with Monolithic Free Wheeling Diode, 3-Pin TO-247, Pb-Free, Tube; Manufacturer: On Semiconductor; PartNumber: NGTB30N135IHRWG; DatasheetVersion: Rev. 0; PackageVersion: Rev. A, 08/2013; PackageReference: TO-247-3-340AL; PackageDescription: 3-Pin Flange Mount, Vertical Straight Lead, Body 15.875 x 5 mm, Pitch 5.45 mm; Supplier 1: Digi-Key; Supplier Part Number 1: NGTB30N135IHRWGOS-ND; Supplier 2: Newark; Supplier Part Number 2: 97W6297; Supplier 3: Mouser; Supplier Part Number 3: 863-NGTB30N135IHRWG; Packing: Tube; RoHS: Pb-Free; Mounting Technology: Through Hole; ComponentLink1Description: Manufacturer URL; ComponentLink1URL: http://www.onsemi.com/; ComponentLink2Description: Datasheet; ComponentLink2URL: http://www.onsemi.com/pub_link/Collateral/NGTB30N135IHR-D.PDF; ComponentLink3Description: Package Specification; ComponentLink3URL: http://www.onsemi.com/pub_link/Collateral/340AL.PDF
footprint ONSC-TO-247-3-340AL (FM, 3-Leads, Body 16.25x5.3mm, Pitch 5.45mm)
pins: 1 G, 2 C, 3 E

## NGTB40N60FLWG
designator Q?
IGBT, 40 A, 600 V, 3-Pin TO-247, Pb-Free, Tube; Manufacturer: On Semiconductor; PartNumber: NGTB40N60FLWG; DatasheetVersion: Rev. 0; PackageVersion: Rev. F, 10/2011; PackageReference: TO-247-3-340L-02; PackageDescription: 3-Pin Flange Mount, Vertical Straight Lead, Body 16.005 x 5 mm, Pitch 5.45 mm; Supplier 1: Digi-Key; Supplier Part Number 1: NGTB40N60FLWGOS-ND; Supplier 2: Newark; Supplier Part Number 2: 11X3632; Supplier 3: Mouser; Supplier Part Number 3: 863-NGTB40N60FLWG; Packing: Tube; RoHS: Pb-Free; Mounting Technology: Through Hole; ComponentLink1Description: Manufacturer URL; ComponentLink1URL: http://www.onsemi.com/; ComponentLink2Description: Datasheet; ComponentLink2URL: http://www.onsemi.com/pub_link/Collateral/NGTB40N60FLW-D.PDF; ComponentLink3Description: Package Specification; ComponentLink3URL: http://www.onsemi.cn/pub_link/Collateral/340L-02.PDF
footprint ONSC-TO-247-3-340L-02 (FM, 3-Leads, Body 16.3x5.3mm, Pitch 5.45mm)
pins: 1 G, 2 C, 3 E

## NGTB40N60IHLWG
designator Q?
IGBT, 40 A, 600 V, 3-Pin TO-247, Pb-Free, Tube; Manufacturer: On Semiconductor; PartNumber: NGTB40N60IHLWG; DatasheetVersion: Rev. 0; PackageVersion: Rev. F, 10/2011; PackageReference: TO-247-3-340L-02; PackageDescription: 3-Pin Flange Mount, Vertical Straight Lead, Body 16.005 x 5 mm, Pitch 5.45 mm; Supplier 1: Farnell; Supplier Part Number 1: 2321655; Supplier 2: Newark; Supplier Part Number 2: 90W9276; Supplier 3: Newark; Supplier Part Number 3: 60W1762; Supplier 4: Mouser; Supplier Part Number 4: 863-NGTB40N60IHLWG; Packing: Tube; RoHS: Pb-Free; Mounting Technology: Through Hole; ComponentLink1Description: Manufacturer URL; ComponentLink1URL: http://www.onsemi.com/; ComponentLink2Description: Datasheet; ComponentLink2URL: http://www.onsemi.com/pub_link/Collateral/NGTB40N60IHLW-D.PDF; ComponentLink3Description: Package Specification; ComponentLink3URL: http://www.onsemi.cn/pub_link/Collateral/340L-02.PDF
footprint ONSC-TO-247-3-340L-02 (FM, 3-Leads, Body 16.3x5.3mm, Pitch 5.45mm)
pins: 1 G, 2 C, 3 E

## NGTB40N120FLWG
designator Q?
IGBT, 40 A, 1200 V, 3-Pin TO-247, Pb-Free, Tube; Manufacturer: On Semiconductor; PartNumber: NGTB40N120FLWG; DatasheetVersion: Rev. 2; PackageVersion: Rev. F, 10/2011; PackageReference: TO-247-3-340L-02; PackageDescription: 3-Pin Flange Mount, Vertical Straight Lead, Body 16.005 x 5 mm, Pitch 5.45 mm; Supplier 1: Farnell; Supplier Part Number 1: 2321663; Supplier 2: Newark; Supplier Part Number 2: 90W9273; Supplier 3: Newark; Supplier Part Number 3: 60W1759; Supplier 4: Mouser; Supplier Part Number 4: 863-NGTB40N120FLWG; Packing: Tube; RoHS: Pb-Free; Mounting Technology: Through Hole; ComponentLink1Description: Manufacturer URL; ComponentLink1URL: http://www.onsemi.com/; ComponentLink2Description: Datasheet; ComponentLink2URL: http://www.onsemi.com/pub_link/Collateral/NGTB40N120FLW-D.PDF; ComponentLink3Description: Package Specification; ComponentLink3URL: http://www.onsemi.cn/pub_link/Collateral/340L-02.PDF
footprint ONSC-TO-247-3-340L-02 (FM, 3-Leads, Body 16.3x5.3mm, Pitch 5.45mm)
pins: 1 G, 2 C, 3 E

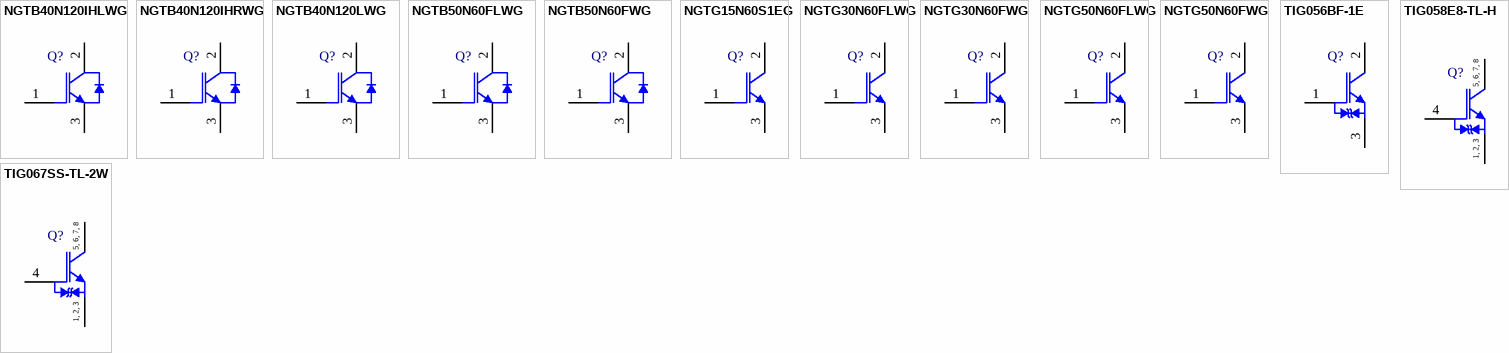
[diagram p1: symbols NGTB40N120IHLWG to TIG067SS-TL-2W]

## NGTB40N120IHLWG
designator Q?
IGBT, 40 A, 1200 V, 3-Pin TO-247, Pb-Free, Tube; Manufacturer: On Semiconductor; PartNumber: NGTB40N120IHLWG; DatasheetVersion: Rev. 0; PackageVersion: Rev. F, 10/2011; PackageReference: TO-247-3-340L-02; PackageDescription: 3-Pin Flange Mount, Vertical Straight Lead, Body 16.005 x 5 mm, Pitch 5.45 mm; Supplier 1: Farnell; Supplier Part Number 1: 2321664; Supplier 2: Newark; Supplier Part Number 2: 90W9274; Supplier 3: Newark; Supplier Part Number 3: 60W1760; Supplier 4: Mouser; Supplier Part Number 4: 863-NGTB40N120IHLWG; Packing: Tube; RoHS: Pb-Free; Mounting Technology: Through Hole; ComponentLink1Description: Manufacturer URL; ComponentLink1URL: http://www.onsemi.com/; ComponentLink2Description: Datasheet; ComponentLink2URL: http://www.onsemi.com/pub_link/Collateral/NGTB40N120IHLW-D.PDF; ComponentLink3Description: Package Specification; ComponentLink3URL: http://www.onsemi.cn/pub_link/Collateral/340L-02.PDF
footprint ONSC-TO-247-3-340L-02 (FM, 3-Leads, Body 16.3x5.3mm, Pitch 5.45mm)
pins: 1 G, 2 C, 3 E

## NGTB40N120IHRWG
designator Q?
IGBT with Monolithic Free Wheeling Diode, 3-Pin TO-247, Pb-Free, Tube; Manufacturer: On Semiconductor; PartNumber: NGTB40N120IHRWG; DatasheetVersion: Rev. 0; PackageVersion: Rev. A, 08/2013; PackageReference: TO-247-3-340AL; PackageDescription: 3-Pin Flange Mount, Vertical Straight Lead, Body 15.875 x 5 mm, Pitch 5.45 mm; Supplier 1: Digi-Key; Supplier Part Number 1: NGTB40N120IHRWGOS-ND; Supplier 2: Newark; Supplier Part Number 2: 97W6298; Supplier 3: Mouser; Supplier Part Number 3: 863-NGTB40N120IHRWG; Packing: Tube; RoHS: Pb-Free; Mounting Technology: Through Hole; ComponentLink1Description: Manufacturer URL; ComponentLink1URL: http://www.onsemi.com/; ComponentLink2Description: Datasheet; ComponentLink2URL: http://www.onsemi.com/pub_link/Collateral/NGTB40N120IHR-D.PDF; ComponentLink3Description: Package Specification; ComponentLink3URL: http://www.onsemi.com/pub_link/Collateral/340AL.PDF
footprint ONSC-TO-247-3-340AL (FM, 3-Leads, Body 16.25x5.3mm, Pitch 5.45mm)
pins: 1 G, 2 C, 3 E

## NGTB40N120LWG
designator Q?
IGBT, 40 A, 1200 V, 3-Pin TO-247, Pb-Free, Tube; Manufacturer: On Semiconductor; PartNumber: NGTB40N120LWG; DatasheetVersion: Rev. 0; PackageVersion: Rev. F, 10/2011; PackageReference: TO-247-3-340L-02; PackageDescription: 3-Pin Flange Mount, Vertical Straight Lead, Body 16.005 x 5 mm, Pitch 5.45 mm; Supplier 1: Farnell; Supplier Part Number 1: 2321665; Supplier 2: Newark; Supplier Part Number 2: 90W9275; Supplier 3: Newark; Supplier Part Number 3: 60W1761; Supplier 4: Mouser; Supplier Part Number 4: 863-NGTB40N120LWG; Packing: Tube; RoHS: Pb-Free; Mounting Technology: Through Hole; ComponentLink1Description: Manufacturer URL; ComponentLink1URL: http://www.onsemi.com/; ComponentLink2Description: Datasheet; ComponentLink2URL: http://www.onsemi.com/pub_link/Collateral/NGTB40N120L-D.PDF; ComponentLink3Description: Package Specification; ComponentLink3URL: http://www.onsemi.cn/pub_link/Collateral/340L-02.PDF
footprint ONSC-TO-247-3-340L-02 (FM, 3-Leads, Body 16.3x5.3mm, Pitch 5.45mm)
pins: 1 G, 2 C, 3 E

## NGTB50N60FLWG
designator Q?
IGBT, 50 A, 600 V, 3-Pin TO-247, Pb-Free, Tube; Manufacturer: On Semiconductor; PartNumber: NGTB50N60FLWG; DatasheetVersion: Rev. 1; PackageVersion: Rev. F, 10/2011; PackageReference: TO-247-3-340L-02; PackageDescription: 3-Pin Flange Mount, Vertical Straight Lead, Body 16.005 x 5 mm, Pitch 5.45 mm; Supplier 1: Farnell; Supplier Part Number 1: 2321651; Supplier 2: Newark; Supplier Part Number 2: 90W9277; Supplier 3: Newark; Supplier Part Number 3: 60W1763; Supplier 4: Mouser; Supplier Part Number 4: 863-NGTB50N60FLWG; Packing: Tube; RoHS: Pb-Free; Mounting Technology: Through Hole; ComponentLink1Description: Manufacturer URL; ComponentLink1URL: http://www.onsemi.com/; ComponentLink2Description: Datasheet; ComponentLink2URL: http://www.onsemi.com/pub_link/Collateral/NGTB50N60FLW-D.PDF; ComponentLink3Description: Package Specification; ComponentLink3URL: http://www.onsemi.cn/pub_link/Collateral/340L-02.PDF
footprint ONSC-TO-247-3-340L-02 (FM, 3-Leads, Body 16.3x5.3mm, Pitch 5.45mm)
pins: 1 G, 2 C, 3 E

## NGTB50N60FWG
designator Q?
IGBT, 50 A, 600 V, 3-Pin TO-247, Pb-Free, Tube; Manufacturer: On Semiconductor; PartNumber: NGTB50N60FWG; DatasheetVersion: Rev. 1; PackageVersion: Rev. F, 10/2011; PackageReference: TO-247-3-340L-02; PackageDescription: 3-Pin Flange Mount, Vertical Straight Lead, Body 16.005 x 5 mm, Pitch 5.45 mm; Supplier 1: Digi-Key; Supplier Part Number 1: NGTB50N60FWGOS-ND; Supplier 2: Farnell; Supplier Part Number 2: 2321652; Supplier 3: Newark; Supplier Part Number 3: 90W9278; Supplier 4: Newark; Supplier Part Number 4: 72W2260; Supplier 5: Mouser; Supplier Part Number 5: 863-NGTB50N60FWG; Packing: Tube; RoHS: Pb-Free; Mounting Technology: Through Hole; ComponentLink1Description: Manufacturer URL; ComponentLink1URL: http://www.onsemi.com/; ComponentLink2Description: Datasheet; ComponentLink2URL: http://www.onsemi.com/pub_link/Collateral/NGTB50N60FW-D.PDF; ComponentLink3Description: Package Specification; ComponentLink3URL: http://www.onsemi.cn/pub_link/Collateral/340L-02.PDF
footprint ONSC-TO-247-3-340L-02 (FM, 3-Leads, Body 16.3x5.3mm, Pitch 5.45mm)
pins: 1 G, 2 C, 3 E

## NGTG15N60S1EG
designator Q?
IGBT - Short-Circuit Rated, 3-Pin TO-220, Pb-Free, Tube; Manufacturer: On Semiconductor; PartNumber: NGTG15N60S1EG; DatasheetVersion: Rev. 3; PackageVersion: Rev. AG, 09/2011; PackageReference: TO-220-3-221A-09; PackageDescription: 3-Pin Flange Mount, Vertical Straight Lead, Body 9.97 x 4.445 mm, Pitch 2.54 mm; Supplier 1: Digi-Key; Supplier Part Number 1: NGTG15N60S1EGOS-ND; Supplier 2: Farnell; Supplier Part Number 2: 2216672; Supplier 3: Newark; Supplier Part Number 3: 07W7308; Supplier 4: Newark; Supplier Part Number 4: 46W5235; Supplier 5: Mouser; Supplier Part Number 5: 863-NGTG15N60S1EG; Packing: Tube; RoHS: Pb-Free; Mounting Technology: Through Hole; ComponentLink1Description: Manufacturer URL; ComponentLink1URL: http://www.onsemi.com/; ComponentLink2Description: Datasheet; ComponentLink2URL: http://www.onsemi.com/pub_link/Collateral/NGTG15N60S1E-D.PDF; ComponentLink3Description: Package Specification; ComponentLink3URL: http://www.onsemi.com/pub_link/Collateral/221A-09.PDF
footprint ONSC-TO-220-3-221A-09 (FM, 3-Leads, Body 10.3x4.85mm, Pitch 2.54mm)
pins: 1 G, 2 C, 3 E